# Altium schematic symbol library 500SSP1S1M2QEA.SchLib: 1 symbol
Pins are listed as number, name and electrical type; pins without a type are passive.

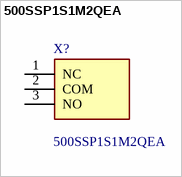
[diagram p0: symbol 500SSP1S1M2QEA]

## 500SSP1S1M2QEA
designator X?
SLIDE, 5A, 120VAC/28VDC SPDT, On-On Through Hole; Manufacturer_Name: E-Switch; Geometry.Height: 11.43mm; Manufacturer_Part_Number: 500SSP1S1M2QEA; Mouser Part Number: 612-500-A121; Mouser Price/Stock: https://www.mouser.co.uk/ProductDetail/E-Switch/500SSP1S1M2QEA?qs=rR7wk9eDIwofjM3j2mZRnA%3D%3D; Arrow Part Number: *; Arrow Price/Stock: *; Datasheet Link: https://configured-product-images.s3.amazonaws.com/2D/specs/500SSP1S1M2QEA.pdf
footprint 500SSP1S1M2QEA
pins: 1 NC, 2 COM, 3 NO